# EAGLE library part MSTBV8G (library con-phoenix-500)
PHOENIX
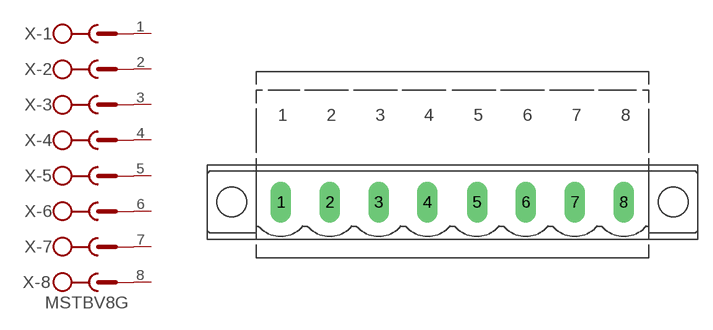
[diagram p1: symbol with the pads of MSTBV8G; footprint MSTBV8G]

Designator prefix X; gates -1=SK -2=SK -3=SK -4=SK -5=SK -6=SK -7=SK -8=SK+V

## MSTBV8G (OC_FARNELL: unknown; OC_NEWARK: unknown)  [MSTBV8G]
1  -1:SK  pas
2  -2:SK  pas
3  -3:SK  pas
4  -4:SK  pas
5  -5:SK  pas
6  -6:SK  pas
7  -7:SK  pas
8  -8:SK  pas

## Footprint MSTBV8G (pad centres in mm)
PHOENIX
drill 1.397 long: 1 -17.5,0; 2 -12.522,0; 3 -7.518,0; 4 -2.565,0; 5 2.515,0; 6 7.494,0; 7 12.497,0; 8 17.501,0